# Altium schematic symbol library triac.Schlib: 1 symbol
Pins are listed as number, name and electrical type; pins without a type are passive.

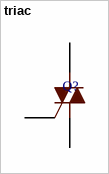
[diagram p0: symbol triac]

## triac
designator Q?  (value not drawn)
Basic Triac Symbol
pins: 1 M1, 2 M2, 3 G